# EAGLE library part AS-ITM-00365 (library tinycircuits)
BME280 - SENSOR PRESSURE HUMIDITY TEMP
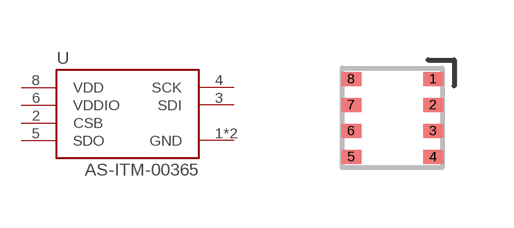
[diagram p146: symbol with the pads of BME280; footprint BME280]

Designator prefix U

## AS-ITM-00365 (PARTNO: AS-ITM-00365; VALUE: BME280)  [BME280]
1  GND
2  CSB
3  SDI
4  SCK
5  SDO
6  VDDIO
7  GND
8  VDD

## Footprint BME280 (pad centres in mm)
BME280 - SENSOR PRESSURE HUMIDITY TEMP
smd 0.5 x 0.35: 1 1.025,0.975; 2 1.025,0.325; 3 1.025,-0.325; 4 1.025,-0.975; 5 -1.025,-0.975; 6 -1.025,-0.325; 7 -1.025,0.325; 8 -1.025,0.975